# EAGLE library part SN74LVC1T45 (library SN74LVC1T45)
SN74LVC1T45 Single-Bit Dual-Supply Bus Transceiver With Configurable Voltage Translation and 3-State Outputs Datasheet <http://www.ti.com/lit/ds/symlink/sn74lvc1t45.pdf> Designed by AKstudios <https://github.com/AKstudios>
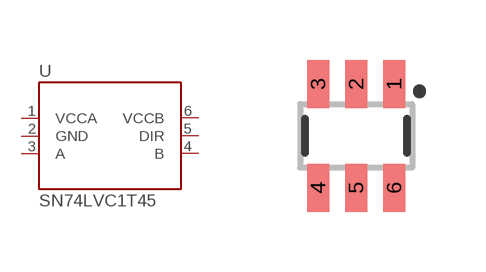
[diagram p0: symbol with the pads of SOT23-6; footprint SOT23-6]

Designator prefix U

## SN74LVC1T45SOT-23 (VALUE: SN74LVC1T45)  [SOT23-6]
1  VCCA
2  GND
3  A
4  B
5  DIR
6  VCCB

## Footprint SOT23-6 (pad centres in mm)
SOT23-6 Specifications: Pin count: 6 Example device(s): MCP4725
smd 0.55 x 1.2: 1 0.95,1.3; 2 0,1.3; 3 -0.95,1.3; 4 -0.95,-1.3; 5 0,-1.3; 6 0.95,-1.3